# EAGLE library part HDR_7_RA_440055-7 (library dpx-con-CUSTOM)
2.0MM,HDR,7POS,R/A Source: Datasheet <https://www.te.com/commerce/DocumentDelivery/DDEController?Action=srchrtrv&DocNm=1-1773713-2_HPI_QRG_EN&DocType=Data Sheet&DocLang=English&PartCntxt=440055-7&DocFormat=pdf>
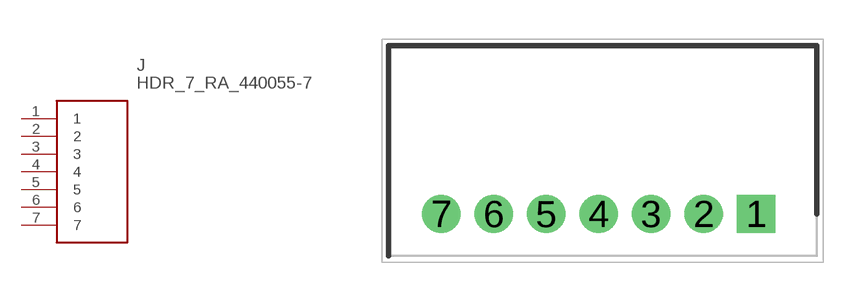
[diagram p18: symbol with the pads of SHDRRA7W52P0X200_1X7_1600X770X; footprint SHDRRA7W52P0X200_1X7_1600X770X]

Designator prefix J

## HDR_7_RA_440055-7 (DESCRIPTION: 2.0MM,HDR,7POS,R/A; HEIGHT: 5.11mm; MANUFACTURER_NAME: TE Connectivity; MANUFACTURER_PART_NUMBER: 440055-7)  [SHDRRA7W52P0X200_1X7_1600X770X]
1  1
2  2
3  3
4  4
5  5
6  6
7  7

## Footprint SHDRRA7W52P0X200_1X7_1600X770X (pad centres in mm)
440055-7
drill 0.95 pad 1.425 square: 1 0,0
drill 0.95 pad 1.425: 2 -2,0; 3 -4,0; 4 -6,0; 5 -8,0; 6 -10,0; 7 -12,0